# EAGLE library part MY_HDMI (library basicBoard)
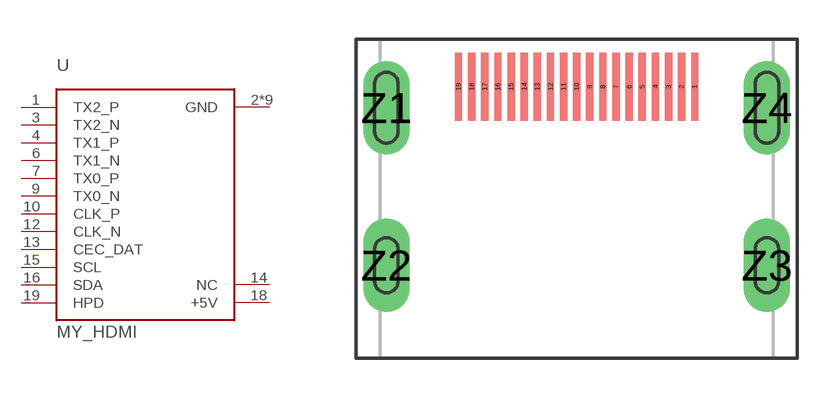
[diagram p9: symbol with the pads of 685119134923; footprint 685119134923]

Designator prefix -

## MY_HDMI  [685119134923]
1  TX2_P
2  GND
3  TX2_N
4  TX1_P
5  GND
6  TX1_N
7  TX0_P
8  GND
9  TX0_N
10  CLK_P
11  GND
12  CLK_N
13  CEC_DAT
14  NC
15  SCL
16  SDA
17  GND
18  +5V
19  HPD
Z1  GND
Z2  GND
Z3  GND
Z4  GND

## Footprint 685119134923 (pad centres in mm)
WR-COM SMT Horizontal HDMI, 19 pins
smd 0.28 x 2.6: 1 4.5,0; 2 4,0; 3 3.5,0; 4 3,0; 5 2.5,0; 6 2,0; 7 1.5,0; 8 1,0; 9 0.5,0; 10 0,0; 11 -0.5,0; 12 -1,0; 13 -1.5,0; 14 -2,0; 15 -2.5,0; 16 -3,0; 17 -3.5,0; 18 -4,0; 19 -4.5,0
drill 0.9 pad 1.778 long: Z1 -7.25,-0.8; Z2 -7.25,-6.8; Z3 7.25,-6.8; Z4 7.25,-0.8